# Altium footprint library TS170R1H105MSBFA0R.PcbLib: 1 footprints
Each footprint in its own frame and in the unit in brackets; x right, y up, seen from the top. Pads: shape width x height; smd on the part's side, far side on the other; paste and mask are expansions set on the pad; w line width, h text height; cw(c..) or ccw(c..) is an arc to the next point about the centre after c.
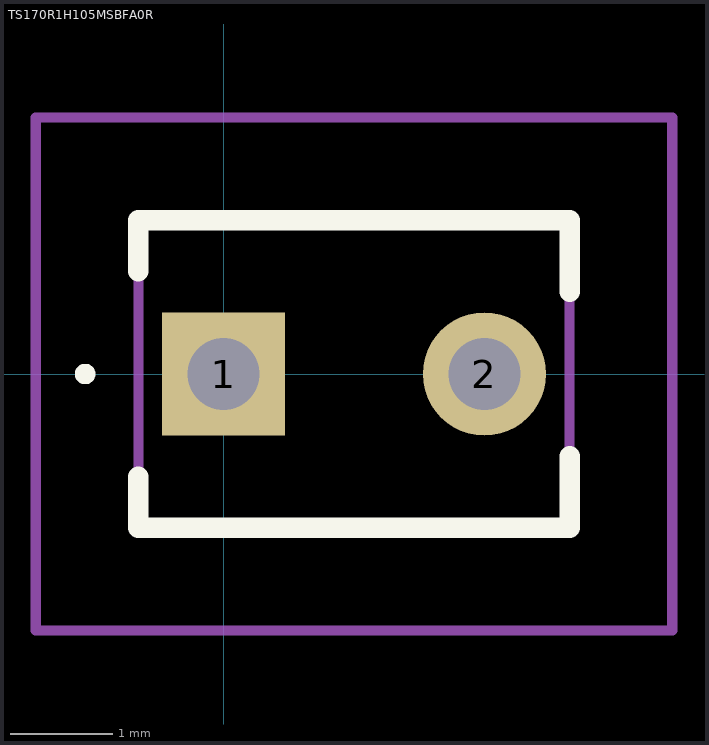
[diagram p0: the footprint, top view; thin cyan lines are the x and y axes]

## TS170R1H105MSBFA0R [mm]
pads (2):
  rect 1.2x1.2 hole 0.7: 1(0,0)
  round 1.2 hole 0.7: 2(2.54,0)
Top Overlay:
  lines w0.1: -1.4,0 -1.4,0 ; -1.4,0 ccw(c-1.35,0) -1.3,0 ; -1.4,0 cw(c-1.35,0) -1.3,0 ; -1.3,0 -1.3,0
  lines w0.2: -0.83,-1 -0.83,-1.5 3.37,-1.5 3.37,-0.8 ; -0.83,1 -0.83,1.5 3.37,1.5 3.37,0.8
Mechanical 15:
  lines w0.1: -0.83,-1.5 3.37,-1.5 3.37,1.5 -0.83,1.5 -0.83,-1.5
Mechanical 20:
  lines w0.1: -1.83,-2.5 4.37,-2.5 4.37,2.5 -1.83,2.5 -1.83,-2.5